# EAGLE library part MAX44008EDT+T (library Maxim, Dallas)
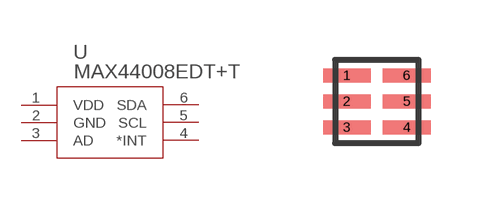
[diagram p1: symbol with the pads of 21-0606A; footprint 21-0606A]

Designator prefix U

## MAX44008EDT+T (MANUFACTURER_PART_NUMBER: max44008edt+t; VENDOR: MAXIM)  [21-0606A]
1  VDD  pwr
2  GND  pwr
3  AD  pas
4  *INT  pas
5  SCL  pas
6  SDA  pas

## Footprint 21-0606A (pad centres in mm)
smd 1.194 x 0.356: 1 -0.749,0.65; 2 -0.749,0; 3 -0.749,-0.65; 4 0.749,-0.65; 5 0.749,0; 6 0.749,0.65